# EAGLE library part 428427320911 (library WS-ROTU)
WS-ROTU THT Rotary Switch Right Angled with Arrow Type Actuator, 2.54 mm Pitch, 10x10 mm Material Properties Cover Material : PA66 Packaging Properties Packaging :Tube Electrical Properties IR 1 :150 mA Properties Actuator Materia:POM Actuator Flammability Rating:UL94 HB Actuator Color:Dark Grey; Ivory Base Material:PA66 Base Flammability Rating:UL94 V-0 Terminal Plating:Gold Actuator Type:Arrow Type Washable:Yes Mechanical Properties Electrical Life：10000 Steps Actuator Type：Arrow Type Code：Complement Code; Real Code General Information Operating Temperature:-40 up to +85 °C Tableadditional Actuator Type：Arrow Type Washable：Yes <https://www.we-online.com/catalog/media/o61126v209%20Family_WS_RAT_10x10_THT_42842732091x_pf2.jpg> Details see: https://www.we-online.com/catalog/en/ROTU_10X10_WASHABLE_THT_RIGHT_ANGLED_ARROW_TYPE_PITCH_2_54/ Updated by yingchun,Shan;2020-02-24 2020(C) Würth Elektronik
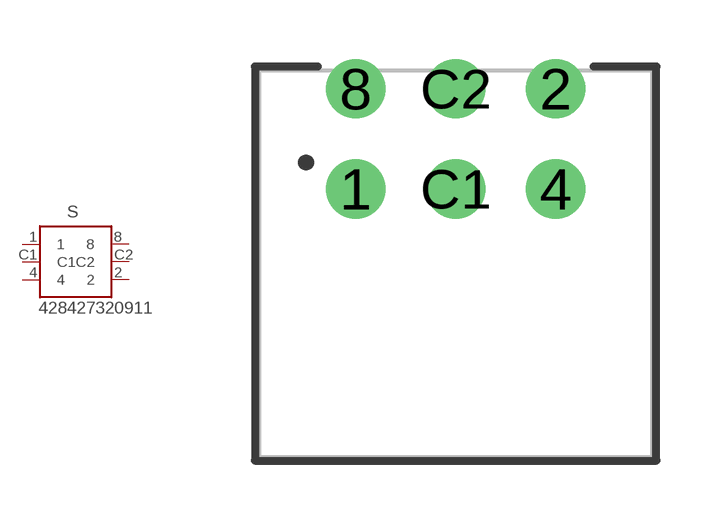
[diagram p8: symbol with the pads of 42842732091X_16POS; footprint 42842732091X_16POS]

Designator prefix S

## 428427320911 (DATASHEET-URL: https://www.we-online.com/catalog/datasheet/428427320911.pdf; NUMBER-OF-POSITION: 10; PART-NUMBER: 428427320911; QTY: 50)  [42842732091X_16POS]
1  1  pas
2  2  pas
4  4  pas
8  8  pas
C1  C1  pas
C2  C2  pas

## Footprint 42842732091X_16POS (pad centres in mm)
WS-ROTU THT Rotary Switch Right Angled with Arrow Type Actuator, 2.54 mm Pitch, 10x10 mm
drill 1: 1 -2.54,1.9; 2 2.54,4.44; 4 2.54,1.9; 8 -2.54,4.44; C1 0,1.9; C2 0,4.44